# Altium schematic symbol library HDMI.SchLib: 1 symbol
Pins are listed as number, name and electrical type; pins without a type are passive.

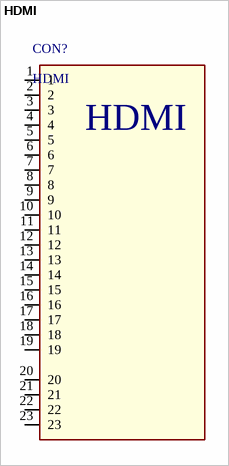
[diagram p0: symbol HDMI]

## HDMI
designator CON?
PDF: http://portal.fciconnect.com/Comergent//fci/drawing/10029449.pdf; BUY_LINK: http://www.digikey.com/product-detail/en/10029449-001RLF/609-1010-1-ND/1002823; ID: HDMI; PRICE: 1.28000
footprint 10029449-001RLF
pins: 1, 2, 3, 4, 5, 6, 7, 8, 9, 10, 11, 12, 13, 14, 15, 16, 17, 18, 19, 20, 21, 22, 23